# Altium footprint library Footprints.PcbLib: 111 footprints (part 2 of 7)
Each footprint in its own frame and in the unit in brackets; x right, y up, seen from the top. Pads: shape width x height; smd on the part's side, far side on the other; paste and mask are expansions set on the pad; w line width, h text height; cw(c..) or ccw(c..) is an arc to the next point about the centre after c.
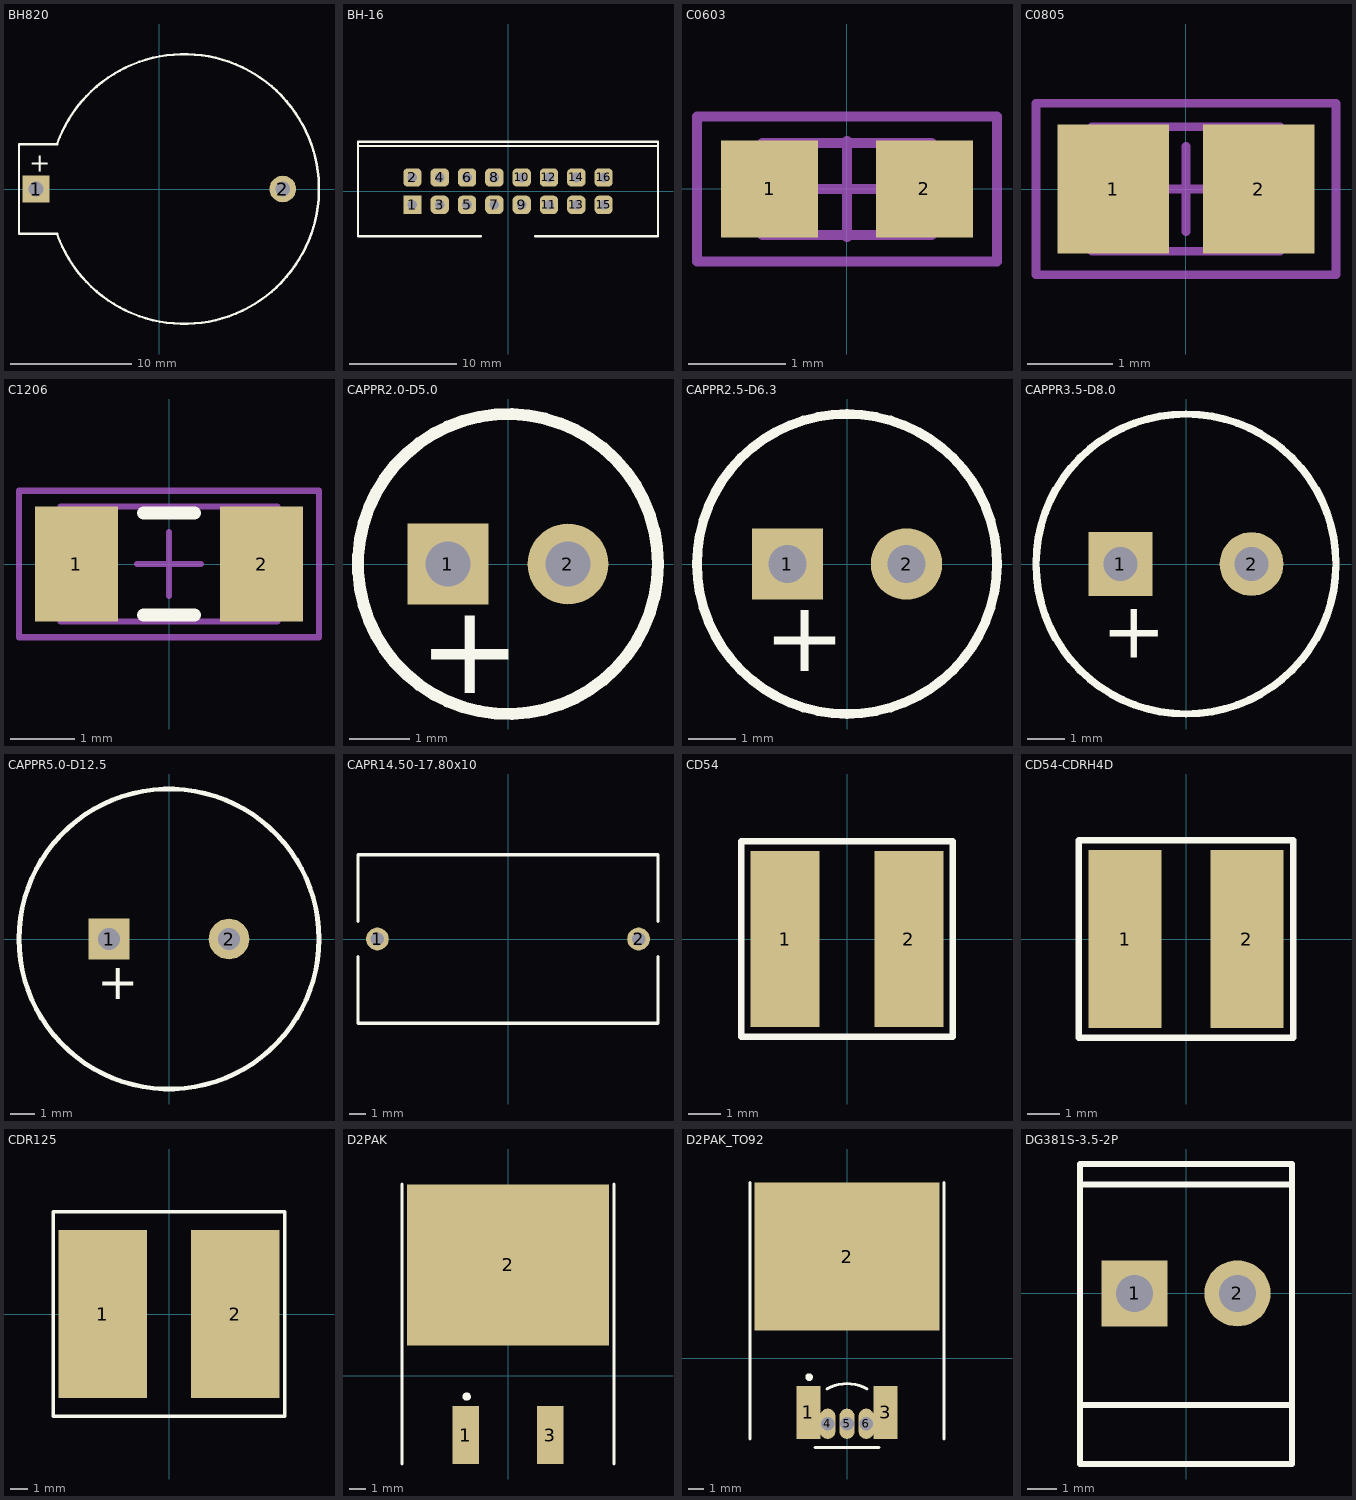
[diagram p1: the footprints below, top view; thin cyan lines are the x and y axes]

## BH820 [mm] "Battery holder - CR2032"
height 9.25
pads (2):
  rect 2.2x2.2 hole 1.2: 1(-10.16,0)
  round 2.2 hole 1.2: 2(10.16,0)
Top Overlay:
  lines w0.2: -8.44,-3.67 -11.56,-3.67 -11.56,3.67 -8.44,3.67 ; -8.427,-3.696 ccw(c2.04,0) -8.427,3.696
  text "+" at -10.7,1.4 h1.52
3D body: height 9.25, standoff 0, extent -11.56,-3.67 -8.427,3.696
3D body: height 7.3, standoff 0, extent -9.06,-11.1 13.052,11.056

## BH-16 [mm] "BH-16; Pitch 2.54"
height 8.9
pads (16):
  rect 1.7x1.7 hole 0.9: 1(-8.89,-1.27)
  rrect50% 1.7x1.7 hole 0.9: 2(-8.89,1.27) 3(-6.35,-1.27) 4(-6.35,1.27) 5(-3.81,-1.27) 6(-3.81,1.27) 7(-1.27,-1.27) 8(-1.27,1.27) 9(1.27,-1.27) 10(1.27,1.27) 11(3.81,-1.27) 12(3.81,1.27) 13(6.35,-1.27) 14(6.35,1.27) 15(8.89,-1.27) 16(8.89,1.27)
Top Overlay:
  lines w0.2: -13.95,4.2 13.95,4.2 ; -2.5,-4.2 -13.95,-4.2 -13.95,4.6 13.95,4.6 13.95,-4.2 2.5,-4.2
3D body: height 8.9, standoff 0, extent -14,-4.2 -13.9,4.6
3D body: height 8.9, standoff 0, extent -13.95,-4.25 13.95,-4.15
3D body: height 8.9, standoff 0, extent 13.85,-4.2 13.95,4.6
3D body: height 8.9, standoff 0, extent -13.95,4.5 13.95,4.6
3D body: height 8.54, standoff -3, extent 6.031,-1.589 6.669,-0.951
3D body: height 8.54, standoff -3, extent 6.031,0.951 6.669,1.589
3D body: height 8.54, standoff -3, extent 3.491,-1.589 4.129,-0.951
3D body: height 8.54, standoff -3, extent 3.491,0.951 4.129,1.589
3D body: height 8.54, standoff -3, extent 0.951,-1.589 1.589,-0.951
3D body: height 8.54, standoff -3, extent -1.589,0.951 -0.951,1.589
3D body: height 8.54, standoff -3, extent -1.589,-1.589 -0.951,-0.951
3D body: height 8.54, standoff -3, extent -4.129,0.951 -3.491,1.589
3D body: height 8.54, standoff -3, extent -4.129,-1.589 -3.491,-0.951
3D body: height 8.54, standoff -3, extent -6.669,0.951 -6.031,1.589
3D body: height 8.54, standoff -3, extent -6.669,-1.589 -6.031,-0.951
3D body: height 8.54, standoff -3, extent -9.209,-1.589 -8.571,-0.951
3D body: height 8.54, standoff -3, extent -9.209,0.951 -8.571,1.589
3D body: height 2.54, standoff 0, extent -13.95,-4.2 13.95,4.6
3D body: height 8.54, standoff -3, extent 0.951,-1.589 1.589,-0.951
3D body: height 8.54, standoff -3, extent 0.951,0.951 1.589,1.589
3D body: height 8.54, standoff -3, extent 8.571,0.951 9.209,1.589
3D body: height 8.54, standoff -3, extent 8.571,-1.589 9.209,-0.951

## C0603 [mm] "Chip Capacitor, Body 1.6x0.8mm, IPC Medium Density"
height 0.85
pads (2):
  rect 1x1 smd: 1(-0.8,0) 2(0.8,0)
Mechanical 1:
  lines w0.1: -0.875,-0.475 0.875,-0.475 0.875,0.475 -0.875,0.475 -0.875,-0.475
Mechanical 3:
  lines w0.1: -0.5,0 0.5,0 ; 0,-0.5 0,0.5 ; -1.55,-0.75 1.55,-0.75 1.55,0.75 -1.55,0.75 -1.55,-0.75
3D body: height 0.85, standoff 0, extent -0.875,-0.475 0.875,0.475

## C0805 [mm] "Chip Capacitor, Body 2.0x1.3mm, IPC Medium Density"
height 1.1
pads (2):
  rect 1.3x1.5 smd: 1(-0.85,0) 2(0.85,0)
Mechanical 1:
  lines w0.1: -1.1,-0.725 -1.1,0.725 1.1,0.725 1.1,-0.725 -1.1,-0.725
Mechanical 3:
  lines w0.1: -0.5,0 0.5,0 ; 0,-0.5 0,0.5 ; -1.75,-1 -1.75,1 1.75,1 1.75,-1 -1.75,-1
3D body: height 1.1, standoff 0, extent -1.1,-0.725 1.1,0.725

## C1206 [mm] "Chip Capacitor, Body 3.2x1.6mm, IPC Medium Density"
height 1.35
pads (2):
  rect 1.3x1.8 smd: 1(-1.45,0) 2(1.45,0)
Top Overlay:
  lines w0.2: -0.4,-0.8 0.4,-0.8 ; -0.4,0.8 0.4,0.8
Mechanical 1:
  lines w0.1: -1.7,-0.9 1.7,-0.9 1.7,0.9 -1.7,0.9 -1.7,-0.9
Mechanical 3:
  lines w0.1: -0.5,0 0.5,0 ; 0,-0.5 0,0.5 ; -2.35,-1.15 2.35,-1.15 2.35,1.15 -2.35,1.15 -2.35,-1.15
3D body: height 1.35, standoff 0, extent -1.7,-0.9 1.7,0.9

## CAPPR2.0-D5.0 [mm] "Capacitor, Electrolytic, Radial; Body 5 x 7 mm (Dia.xH typ); Pin Spacing 2 mm (typ)"
height 8
pads (2):
  rect 1.35x1.35 hole 0.75: 1(-1,0)
  round 1.35 hole 0.75: 2(1,0)
Top Overlay:
  circle w0.2: c0,0 r2.5
  text "+" at -1.5,-2.15 h1.5
3D body: height 7, standoff 0, extent -2.5,-2.5 2.48,2.49

## CAPPR2.5-D6.3 [mm] "Capacitor, Electrolytic, Radial; Body 6.3 x 11.5 mm (Dia.xH typ); Pin Spacing 2.5 mm (typ)"
height 12.5
pads (2):
  rect 1.5x1.5 hole 0.8: 1(-1.25,0)
  round 1.5 hole 0.8: 2(1.25,0)
Top Overlay:
  circle w0.2: c0,0 r3.15
  text "+" at -1.75,-2.25 h1.5
3D body: height 11.5, standoff 0, extent -3.15,-3.15 3.125,3.138

## CAPPR3.5-D8.0 [mm] "Capacitor, Electrolytic, Radial; Body 8 x 11.5 mm (Dia.xH typ); Pin Spacing 3.5 mm (typ)"
height 12.5
pads (2):
  rect 1.7x1.7 hole 0.9: 1(-1.75,0)
  round 1.7 hole 0.9: 2(1.75,0)
Top Overlay:
  circle w0.2: c0,0 r4
  text "+" at -2.25,-2.5 h1.5
3D body: height 11.5, standoff 0, extent -4,-4 3.968,3.984

## CAPPR5.0-D12.5 [mm] "Capacitor, Electrolytic, Radial; Body 12.5 x 25.0 mm (Dia.xH typ); Pin Spacing 5.0 mm (typ)"
height 25
pads (2):
  rect 1.7x1.7 hole 0.9: 1(-2.5,0)
  round 1.7 hole 0.9: 2(2.5,0)
Top Overlay:
  circle w0.2: c0,0 r6.25
  text "+" at -3,-2.5 h1.5
3D body: height 25, standoff 0, extent -6.25,-6.238 6.201,6.238

## CAPR14.50-17.80x10 [mm] "Capacitor, Ceramic, Thru-Hole, Dipped Radial; Body 17.80x10 mm (WxT) Pin Spacing 14.50 mm (typ)"
height 16
pads (2):
  round 1.35 hole 0.8: 1(-7.75,0) 2(7.75,0)
Top Overlay:
  lines w0.2: -8.9,-1.05 -8.9,-5 8.9,-5 8.9,-1.05 ; -8.9,1.05 -8.9,5 8.9,5 8.9,1.05
3D body: height 16, standoff 0, extent -8.9,-5 8.9,5

## CD54 [mm] "Magnetically unshielded inductor CD54"
height 4.8
pads (2):
  rect 2.15x5.5 smd: 1(-1.925,0) 2(1.925,0)
Top Overlay:
  lines w0.2: -3.3,-3.05 -3.3,3.05 3.3,3.05 3.3,-3.05 -3.3,-3.05
  text "." at -0.5,2.4 h1.52
3D body: height 4.8, standoff 0, extent -0.41,-2.59 0.41,2.6
3D body: height 4.8, standoff 0, extent -2.179,-2.59 3,2.6
3D body: height 4.8, standoff 0, extent -3,-2.59 2.18,2.6

## CD54-CDRH4D [mm] "Magnetically inductor - multipurpose footprint (CD54, CDRH4D)"
height 4.8
pads (2):
  rect 2.25x5.5 smd: 1(-1.875,0) 2(1.875,0)
Top Overlay:
  lines w0.2: -3.3,-3.05 -3.3,3.05 3.3,3.05 3.3,-3.05 -3.3,-3.05
  text "." at -0.4,2.4 h1.52
3D body: height 4.8, standoff 0, extent -0.41,-2.59 0.41,2.6
3D body: height 4.8, standoff 0, extent -2.179,-2.59 3,2.6
3D body: height 4.8, standoff 0, extent -3,-2.59 2.18,2.6

## CDR125 [mm] "Magnetically shielded inductor CDR125"
height 5.4
pads (2):
  rect 5x9.5 smd: 1(-3.75,0) 2(3.75,0)
Top Overlay:
  lines w0.2: -6.55,-5.8 -6.55,5.8 6.55,5.8 6.55,-5.8 -6.55,-5.8
  text "." at -3.9,5.1 h1.52
3D body: height 5.4, standoff 0, extent -0.773,-5.789 0.773,5.789
3D body: height 5.4, standoff 0, extent -5.004,-5.789 6.55,5.789
3D body: height 5.4, standoff 0, extent -6.55,-5.789 5.004,5.789

## D2PAK [mm] "D2-PAK/TO-263-AB; 3 Leads (1 Cropped); Body 15.9 (inc. leads) x 10.4 mm (LxW max)"
height 4.6
pads (3):
  rect 1.6x3.5 smd: 1(-2.54,-3.575) 3(2.54,-3.575)
  rect 12.2x9.75 smd: 2(0,6.7)
Top Overlay:
  circle w0.25: c-2.495,-1.25 r0.125
  lines w0.2: -6.4,-5.325 -6.4,11.575 ; 6.4,-5.325 6.4,11.575

## D2PAK_TO92 [mm] "D2-PAK/TO-263-AB; 3 Leads (1 Cropped); Body 15.9 (inc. leads) x 10.4 mm (LxW max)"
height 4.6
pads (6):
  rect 1.6x3.5 smd: 1(-2.54,-3.575) 3(2.54,-3.575)
  rect 12.2x9.75 smd: 2(0,6.7)
  oval 1x2 hole 0.9: 4(-1.27,-4.325) 5(0,-4.325) 6(1.27,-4.325)
Top Overlay:
  circle w0.25: c-2.495,-1.25 r0.125
  lines w0.2: -6.4,-5.325 -6.4,11.575 ; -2.1,-5.875 2.1,-5.875 ; -1.325,-2.03 cw(c0,-4.325) 1.325,-2.03 ; 6.4,-5.325 6.4,11.575

## DG381S-3.5-2P [mm] "Terminal block; Step 3.5"
height 9.5
pads (2):
  rect 2.25x2.25 hole 1.25: 1(-1.75,0)
  round 2.25 hole 1.25: 2(1.75,0)
Top Overlay:
  lines w0.2: -3.6,-3.8 3.6,-3.8 ; -3.6,3.7 3.6,3.7 ; -3.6,-5.8 -3.6,4.4 3.6,4.4 3.6,-5.8 -3.6,-5.8
3D body: height 9.5, standoff 0, extent -3.5,-5.7 3.5,4.3